# EAGLE library part MAX-M8 (library Particle)
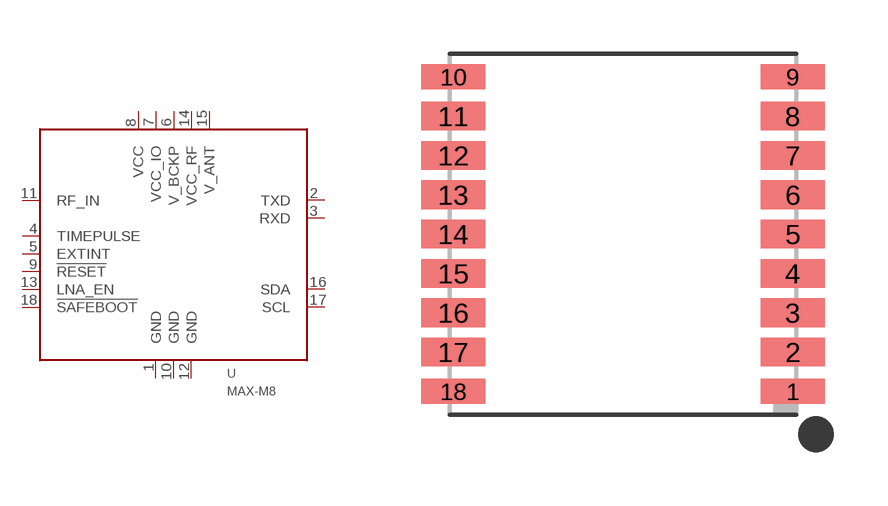
[diagram p26: symbol with the pads of MAX-M8; footprint MAX-M8]

Designator prefix U

## MAX-M8  [MAX-M8]
1  GND
2  TXD
3  RXD
4  TIMEPULSE
5  EXTINT
6  V_BCKP
7  VCC_IO
8  VCC
9  !RESET
10  GND
11  RF_IN
12  GND
13  LNA_EN
14  VCC_RF
15  V_ANT
16  SDA
17  SCL
18  !SAFEBOOT

## Footprint MAX-M8 (pad centres in mm)
u-blox MAX-M8 GPS module
smd 1.8 x 0.7: 1 4.75,-4.4; 9 4.75,4.4; 10 -4.75,4.4; 18 -4.75,-4.4
smd 1.8 x 0.8: 2 4.75,-3.3; 3 4.75,-2.2; 4 4.75,-1.1; 5 4.75,0; 6 4.75,1.1; 7 4.75,2.2; 8 4.75,3.3; 11 -4.75,3.3; 12 -4.75,2.2; 13 -4.75,1.1; 14 -4.75,0; 15 -4.75,-1.1; 16 -4.75,-2.2; 17 -4.75,-3.3